# Altium schematic symbol library ERJ-2RKF1001X.Schlib: 1 symbol
Pins are listed as number, name and electrical type; pins without a type are passive.

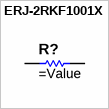
[diagram p0: symbol ERJ-2RKF1001X]

## ERJ-2RKF1001X
designator R?
RES 1K OHM 1/10W 1% 0402 SMD
pins: 1, 2